# Altium integrated library GPT_PCB.IntLib: 3 symbols
Pins are listed as number, name and electrical type; pins without a type are passive.

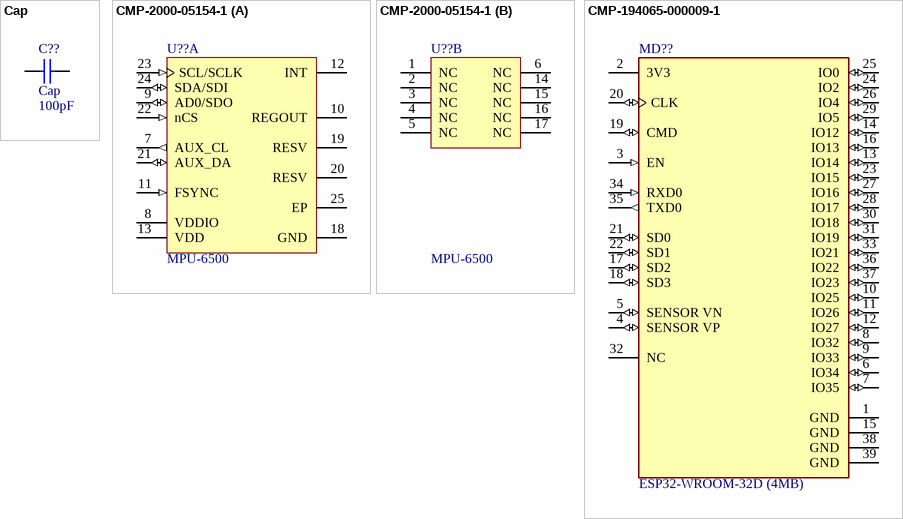
[diagram p0: symbols Cap to CMP-194065-000009-1]

## Cap
designator C??  value 100pF
Capacitor; Published: 8-Jun-2000; LatestRevisionDate: 17-Jul-2002; LatestRevisionNote: Re-released for DXP Platform.; PackageReference: RAD-0.3; Publisher: Altium Limited; PackageDescription: Radial Cap, Thru-Hole; 2 Leads; 0.3 in Pin Spacing
footprint RAD-0.3 (Radial Cap, Thru-Hole; 2 Leads; 0.3 in Pin Spacing)
simulation model CAP (Capacitor)
signal-integrity model Cap
footprint Vime Motor
pins: 1, 2

## CMP-2000-05154-1
designator U??, comment MPU-6500
3-Axis Gyroscope and 3-Axis Accelerometer Motion Processing Unit with I2C and SPI, 1.71 to 3.45 V, -40 to 85 degC, 24-Pin QFN, RoHS, Tape and Reel; Manufacturer: InvenSense; Manufacturer: TDK InvenSense; Online Catalog: MPU-6500Series; Output Type: Digital; Sensor Type: GyroscopeandAccelerometer; Featured Product: InvenSense-MPU-6500Six-Axis(Gyro+Acceleromete)MEMSMotionTrackingDevices; Other Names: 1428-1011-6; Article Library: MCUsasSensorHubs; Series: -; Category: Sensors,Transducers; Dynamic Catalog: MPU-6500Series; Standard Package: 1; Manufacturer URL: http://www.invensense.com/; Family: Multifunction; Datasheet Version: Rev. 1.0, 09/2013; Datasheet URL: https://datasheet.ciiva.com/29175/mpu-6500-spec-29175093.pdf; Manufacturer Part Number: MPU-6500
footprint INSE-MPU-6500-QFN24_N (QFN, 24-Leads, Body 3.1x3.1mm, Pitch 0.4mm, Thermal Pad 1.7X1.54mm, IPC Medium Density)
footprint INSE-MPU-6500-QFN24_L (QFN, 24-Leads, Body 3.1x3.1mm, Pitch 0.4mm, Thermal Pad 1.7X1.54mm, IPC High Density)
footprint INSE-MPU-6500-QFN24_M (QFN, 24-Leads, Body 3.1x3.1mm, Pitch 0.4mm, Thermal Pad 1.7X1.54mm, IPC Low Density)
part A pins: 7 AUX_CL (out) "I2C Master serial clock, for connecting to external sensors", 8 VDDIO (power) "Digital I/O supply voltage", 9 AD0/SDO (io), 10 REGOUT "Regulator filter capacitor connection", 11 FSYNC (in) "Frame synchronization digital input. Connect to GND if unused.", 12 INT (oc) "Interrupt digital output (totem pole or open-drain)", 13 VDD (power) "Power supply voltage and Digital I/O supply voltage", 18 GND (power) "Power supply ground", 19 RESV "Reserved. Do not connect.", 20 RESV (power) "Reserved. Connect to GND.", 21 AUX_DA (io) "I2C master serial data, for connecting to external sensors", 22 nCS (in) "Chip select (SPI mode only)", 23 SCL/SCLK (in), 24 SDA/SDI (io), 25 EP
part B pins: 1 NC "No Connect pins. Do not connect.", 2 NC "No Connect pins. Do not connect.", 3 NC "No Connect pins. Do not connect.", 4 NC "No Connect pins. Do not connect.", 5 NC "No Connect pins. Do not connect.", 6 NC "No Connect pins. Do not connect.", 14 NC "No Connect pins. Do not connect.", 15 NC "No Connect pins. Do not connect.", 16 NC "No Connect pins. Do not connect.", 17 NC "No Connect pins. Do not connect."

## CMP-194065-000009-1
designator MD??, comment ESP32-WROOM-32D (4MB)
RX TXRX MOD WIFI TRACE ANT SMD; Manufacturer: Espressif Systems; Manufacturer Part Number: ESP32-WROOM-32D(4MB)
footprint FP-ESP32-WROOM-32D_4MB-MFG
pins: 1 GND (power), 2 3V3 (power), 3 EN (in), 4 SENSOR VP (io), 5 SENSOR VN (io), 6 IO34 (io), 7 IO35 (io), 8 IO32 (io), 9 IO33 (io), 10 IO25 (io), 11 IO26 (io), 12 IO27 (io), 13 IO14 (io), 14 IO12 (io), 15 GND (power), 16 IO13 (io), 17 SD2 (io), 18 SD3 (io), 19 CMD (io), 20 CLK (io), 21 SD0 (io), 22 SD1 (io), 23 IO15 (io), 24 IO2 (io), 25 IO0 (io), 26 IO4 (io), 27 IO16 (io), 28 IO17 (io), 29 IO5 (io), 30 IO18 (io), 31 IO19 (io), 32 NC, 33 IO21 (io), 34 RXD0 (in), 35 TXD0 (out), 36 IO22 (io), 37 IO23 (io), 38 GND (power), 39 GND (power)